# Altium schematic symbol library Interface_RS-485.SchLib: 137 symbols (part 1 of 5)
Pins are listed as number, name and electrical type; pins without a type are passive.

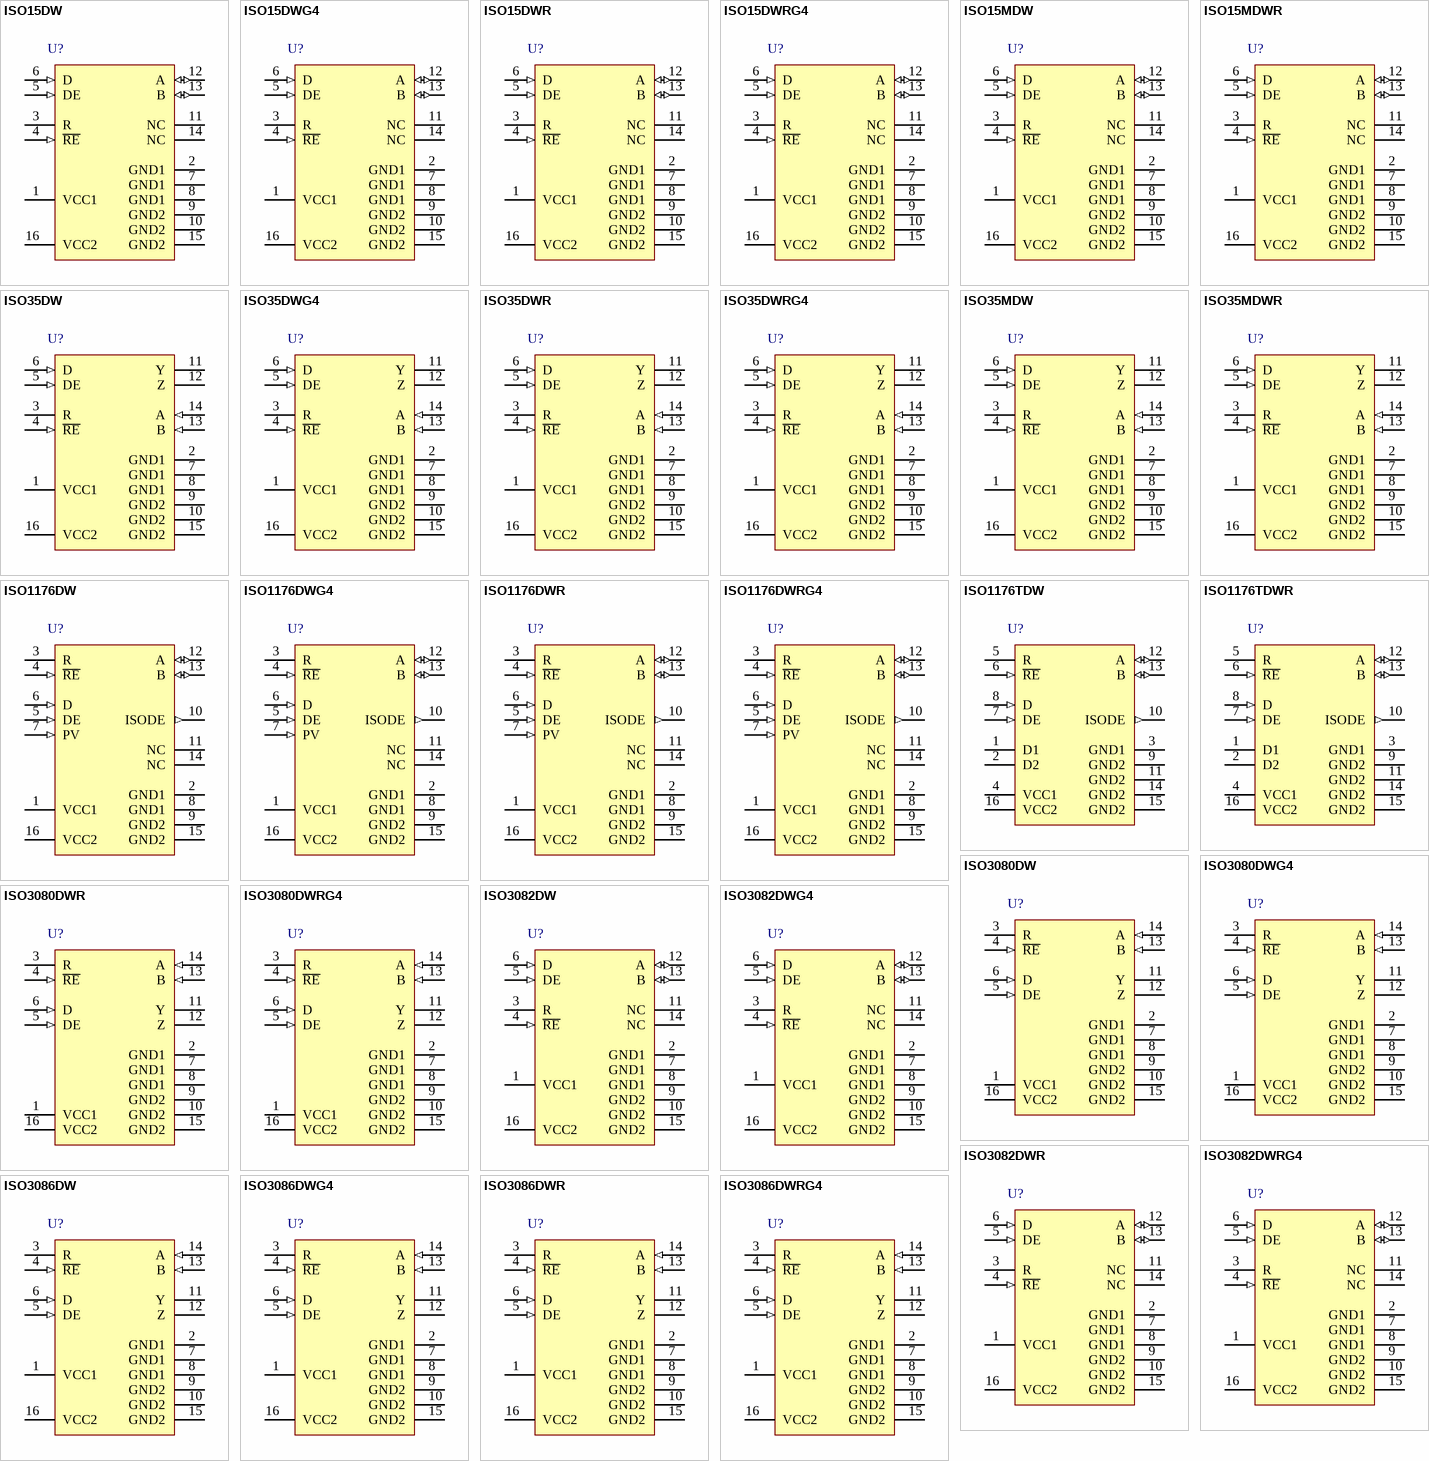
[diagram p0: symbols ISO15DW to ISO3086DWRG4]

## ISO15DW
designator U?
Isolated 3.3 V RS-485 Transceiver, 1 Mbps, 3.3 V, Half Duplex, -40 to 85 degC, 16-pin SOIC (DW), Green (RoHS & no Sb/Br); Manufacturer: Texas Instruments; PartNumber: ISO15DW; # of TX/RX: 1 TX / 1 RX; Isolated: Yes; Number of Nodes: 256; Common Mode Range: -7 to 12; ESD(kV): 16; Fault Protection(V): -9 to 14; Fail Safe: Idle, Open, Short; ICC(Max)(mA): 21; Supply Voltage(s)(V): 3.3; Rating: Catalog; DatasheetVersion: SLOS580F; PackageVersion: revG, Jan-2011; PackageReference: DW16; PackageDescription: 16-Pin Small Outline Integrated Circuit, 10.3 x 7.5 mm, Pitch 1.27 mm Pitch; Supplier 1: Digi-Key; Supplier Part Number 1: 296-23605-5-ND; Supplier 2: Farnell; Supplier Part Number 2: 1755038; Supplier 3: Newark; Supplier Part Number 3: 13N4112; Supplier 4: Mouser; Supplier Part Number 4: 595-ISO15DW; Eco-Plan: Green (RoHS & no Sb/Br); SubFamily: RS-485; Duplex: Half; Mounting Technology: Surface Mount; Code_JEDEC: MS-013-AA; ComponentLink1Description: Datasheet; ComponentLink1URL: http://www.ti.com/general/docs/lit/getliterature.tsp?genericPartNumber=ISO15&fileType=pdf; ComponentLink2Description: Package Specification; ComponentLink2URL: http://www.ti.com/litv/pdf/msoi003g
footprint DW16_N (SOIC, 16-Leads, Body 10.3x7.5mm, Pitch 1.27mm, IPC Medium Density)
footprint DW16_L (SOIC, 16-Leads, Body 10.3x7.5mm, Pitch 1.27mm, IPC High Density)
footprint DW16_M (SOIC, 16-Leads, Body 10.3x7.5mm, Pitch 1.27mm, IPC Low Density)
pins: 1 VCC1 (power), 2 GND1 (power), 3 R (hiz), 4 ~{RE} (in), 5 DE (in), 6 D (in), 7 GND1 (power), 8 GND1 (power), 9 GND2 (power), 10 GND2 (power), 11 NC, 12 A (io), 13 B (io), 14 NC, 15 GND2 (power), 16 VCC2 (power)

## ISO15DWG4
designator U?
Isolated 3.3 V RS-485 Transceiver, 1 Mbps, 3.3 V, Half Duplex, -40 to 85 degC, 16-pin SOIC (DW), Green (RoHS & no Sb/Br); Manufacturer: Texas Instruments; PartNumber: ISO15DWG4; # of TX/RX: 1 TX / 1 RX; Isolated: Yes; Number of Nodes: 256; Common Mode Range: -7 to 12; ESD(kV): 16; Fault Protection(V): -9 to 14; Fail Safe: Idle, Open, Short; ICC(Max)(mA): 21; Supply Voltage(s)(V): 3.3; Rating: Catalog; DatasheetVersion: SLOS580F; PackageVersion: revG, Jan-2011; PackageReference: DW16; PackageDescription: 16-Pin Small Outline Integrated Circuit, 10.3 x 7.5 mm, Pitch 1.27 mm Pitch; Supplier 1: Digi-Key; Supplier Part Number 1: ISO15DWG4-ND; Supplier 2: Newark; Supplier Part Number 2: 03P4521; Supplier 3: Mouser; Supplier Part Number 3: 595-ISO15DWG4; Eco-Plan: Green (RoHS & no Sb/Br); SubFamily: RS-485; Duplex: Half; Mounting Technology: Surface Mount; Code_JEDEC: MS-013-AA; ComponentLink1Description: Datasheet; ComponentLink1URL: http://www.ti.com/general/docs/lit/getliterature.tsp?genericPartNumber=ISO15&fileType=pdf; ComponentLink2Description: Package Specification; ComponentLink2URL: http://www.ti.com/litv/pdf/msoi003g
footprint DW16_N (SOIC, 16-Leads, Body 10.3x7.5mm, Pitch 1.27mm, IPC Medium Density)
footprint DW16_L (SOIC, 16-Leads, Body 10.3x7.5mm, Pitch 1.27mm, IPC High Density)
footprint DW16_M (SOIC, 16-Leads, Body 10.3x7.5mm, Pitch 1.27mm, IPC Low Density)
pins: 1 VCC1 (power), 2 GND1 (power), 3 R (hiz), 4 ~{RE} (in), 5 DE (in), 6 D (in), 7 GND1 (power), 8 GND1 (power), 9 GND2 (power), 10 GND2 (power), 11 NC, 12 A (io), 13 B (io), 14 NC, 15 GND2 (power), 16 VCC2 (power)

## ISO15DWR
designator U?
Isolated 3.3 V RS-485 Transceiver, 1 Mbps, 3.3 V, Half Duplex, -40 to 85 degC, 16-pin SOIC (DW), Green (RoHS & no Sb/Br); Manufacturer: Texas Instruments; PartNumber: ISO15DWR; # of TX/RX: 1 TX / 1 RX; Isolated: Yes; Number of Nodes: 256; Common Mode Range: -7 to 12; ESD(kV): 16; Fault Protection(V): -9 to 14; Fail Safe: Idle, Open, Short; ICC(Max)(mA): 21; Supply Voltage(s)(V): 3.3; Rating: Catalog; DatasheetVersion: SLOS580F; PackageVersion: revG, Jan-2011; PackageReference: DW16; PackageDescription: 16-Pin Small Outline Integrated Circuit, 10.3 x 7.5 mm, Pitch 1.27 mm Pitch; Supplier 1: Digi-Key; Supplier Part Number 1: ISO15DWR-ND; Supplier 2: Newark; Supplier Part Number 2: 03P4522; Supplier 3: Mouser; Supplier Part Number 3: 595-ISO15DWR; Eco-Plan: Green (RoHS & no Sb/Br); SubFamily: RS-485; Duplex: Half; Mounting Technology: Surface Mount; Code_JEDEC: MS-013-AA; ComponentLink1Description: Datasheet; ComponentLink1URL: http://www.ti.com/general/docs/lit/getliterature.tsp?genericPartNumber=ISO15&fileType=pdf; ComponentLink2Description: Package Specification; ComponentLink2URL: http://www.ti.com/litv/pdf/msoi003g
footprint DW16_N (SOIC, 16-Leads, Body 10.3x7.5mm, Pitch 1.27mm, IPC Medium Density)
footprint DW16_L (SOIC, 16-Leads, Body 10.3x7.5mm, Pitch 1.27mm, IPC High Density)
footprint DW16_M (SOIC, 16-Leads, Body 10.3x7.5mm, Pitch 1.27mm, IPC Low Density)
pins: 1 VCC1 (power), 2 GND1 (power), 3 R (hiz), 4 ~{RE} (in), 5 DE (in), 6 D (in), 7 GND1 (power), 8 GND1 (power), 9 GND2 (power), 10 GND2 (power), 11 NC, 12 A (io), 13 B (io), 14 NC, 15 GND2 (power), 16 VCC2 (power)

## ISO15DWRG4
designator U?
Isolated 3.3 V RS-485 Transceiver, 1 Mbps, 3.3 V, Half Duplex, -40 to 85 degC, 16-pin SOIC (DW), Green (RoHS & no Sb/Br); Manufacturer: Texas Instruments; PartNumber: ISO15DWRG4; # of TX/RX: 1 TX / 1 RX; Isolated: Yes; Number of Nodes: 256; Common Mode Range: -7 to 12; ESD(kV): 16; Fault Protection(V): -9 to 14; Fail Safe: Idle, Open, Short; ICC(Max)(mA): 21; Supply Voltage(s)(V): 3.3; Rating: Catalog; DatasheetVersion: SLOS580F; PackageVersion: revG, Jan-2011; PackageReference: DW16; PackageDescription: 16-Pin Small Outline Integrated Circuit, 10.3 x 7.5 mm, Pitch 1.27 mm Pitch; Supplier 1: Digi-Key; Supplier Part Number 1: ISO15DWRG4-ND; Supplier 2: Newark; Supplier Part Number 2: 03P4523; Supplier 3: Mouser; Supplier Part Number 3: 595-ISO15DWRG4; Eco-Plan: Green (RoHS & no Sb/Br); SubFamily: RS-485; Duplex: Half; Mounting Technology: Surface Mount; Code_JEDEC: MS-013-AA; ComponentLink1Description: Datasheet; ComponentLink1URL: http://www.ti.com/general/docs/lit/getliterature.tsp?genericPartNumber=ISO15&fileType=pdf; ComponentLink2Description: Package Specification; ComponentLink2URL: http://www.ti.com/litv/pdf/msoi003g
footprint DW16_N (SOIC, 16-Leads, Body 10.3x7.5mm, Pitch 1.27mm, IPC Medium Density)
footprint DW16_L (SOIC, 16-Leads, Body 10.3x7.5mm, Pitch 1.27mm, IPC High Density)
footprint DW16_M (SOIC, 16-Leads, Body 10.3x7.5mm, Pitch 1.27mm, IPC Low Density)
pins: 1 VCC1 (power), 2 GND1 (power), 3 R (hiz), 4 ~{RE} (in), 5 DE (in), 6 D (in), 7 GND1 (power), 8 GND1 (power), 9 GND2 (power), 10 GND2 (power), 11 NC, 12 A (io), 13 B (io), 14 NC, 15 GND2 (power), 16 VCC2 (power)

## ISO15MDW
designator U?
Isolated 3.3 V RS-485 Transceiver, 1 Mbps, 3.3 V, Half Duplex, -55 to 125 degC, 16-pin SOIC (DW), Green (RoHS & no Sb/Br); Manufacturer: Texas Instruments; PartNumber: ISO15MDW; # of TX/RX: 1 TX / 1 RX; Isolated: Yes; Number of Nodes: 256; Common Mode Range: -7 to 12; ESD(kV): 16; Fault Protection(V): -9 to 14; Fail Safe: Idle, Open, Short; ICC(Max)(mA): 21; Supply Voltage(s)(V): 3.3; Rating: Catalog; DatasheetVersion: SLOS580F; PackageVersion: revG, Jan-2011; PackageReference: DW16; PackageDescription: 16-Pin Small Outline Integrated Circuit, 10.3 x 7.5 mm, Pitch 1.27 mm Pitch; Supplier 1: Digi-Key; Supplier Part Number 1: 296-27545-5-ND; Supplier 2: Newark; Supplier Part Number 2: 79R8074; Supplier 3: Mouser; Supplier Part Number 3: 595-ISO15MDW; Eco-Plan: Green (RoHS & no Sb/Br); SubFamily: RS-485; Duplex: Half; Mounting Technology: Surface Mount; Code_JEDEC: MS-013-AA; ComponentLink1Description: Datasheet; ComponentLink1URL: http://www.ti.com/general/docs/lit/getliterature.tsp?genericPartNumber=ISO15&fileType=pdf; ComponentLink2Description: Package Specification; ComponentLink2URL: http://www.ti.com/litv/pdf/msoi003g
footprint DW16_N (SOIC, 16-Leads, Body 10.3x7.5mm, Pitch 1.27mm, IPC Medium Density)
footprint DW16_L (SOIC, 16-Leads, Body 10.3x7.5mm, Pitch 1.27mm, IPC High Density)
footprint DW16_M (SOIC, 16-Leads, Body 10.3x7.5mm, Pitch 1.27mm, IPC Low Density)
pins: 1 VCC1 (power), 2 GND1 (power), 3 R (hiz), 4 ~{RE} (in), 5 DE (in), 6 D (in), 7 GND1 (power), 8 GND1 (power), 9 GND2 (power), 10 GND2 (power), 11 NC, 12 A (io), 13 B (io), 14 NC, 15 GND2 (power), 16 VCC2 (power)

## ISO15MDWR
designator U?
Isolated 3.3 V RS-485 Transceiver, 1 Mbps, 3.3 V, Half Duplex, -55 to 125 degC, 16-pin SOIC (DW), Green (RoHS & no Sb/Br); Manufacturer: Texas Instruments; PartNumber: ISO15MDWR; # of TX/RX: 1 TX / 1 RX; Isolated: Yes; Number of Nodes: 256; Common Mode Range: -7 to 12; ESD(kV): 16; Fault Protection(V): -9 to 14; Fail Safe: Idle, Open, Short; ICC(Max)(mA): 21; Supply Voltage(s)(V): 3.3; Rating: Catalog; DatasheetVersion: SLOS580F; PackageVersion: revG, Jan-2011; PackageReference: DW16; PackageDescription: 16-Pin Small Outline Integrated Circuit, 10.3 x 7.5 mm, Pitch 1.27 mm Pitch; Supplier 1: Digi-Key; Supplier Part Number 1: ISO15MDWR-ND; Supplier 2: Mouser; Supplier Part Number 2: 595-ISO15MDWR; Eco-Plan: Green (RoHS & no Sb/Br); SubFamily: RS-485; Duplex: Half; Mounting Technology: Surface Mount; Code_JEDEC: MS-013-AA; ComponentLink1Description: Datasheet; ComponentLink1URL: http://www.ti.com/general/docs/lit/getliterature.tsp?genericPartNumber=ISO15&fileType=pdf; ComponentLink2Description: Package Specification; ComponentLink2URL: http://www.ti.com/litv/pdf/msoi003g
footprint DW16_N (SOIC, 16-Leads, Body 10.3x7.5mm, Pitch 1.27mm, IPC Medium Density)
footprint DW16_L (SOIC, 16-Leads, Body 10.3x7.5mm, Pitch 1.27mm, IPC High Density)
footprint DW16_M (SOIC, 16-Leads, Body 10.3x7.5mm, Pitch 1.27mm, IPC Low Density)
pins: 1 VCC1 (power), 2 GND1 (power), 3 R (hiz), 4 ~{RE} (in), 5 DE (in), 6 D (in), 7 GND1 (power), 8 GND1 (power), 9 GND2 (power), 10 GND2 (power), 11 NC, 12 A (io), 13 B (io), 14 NC, 15 GND2 (power), 16 VCC2 (power)

## ISO35DW
designator U?
Isolated 3.3 V RS-485 Transceiver, 1 Mbps, 3.3 V, Full Duplex, -40 to 85 degC, 16-pin SOIC (DW), Green (RoHS & no Sb/Br); Manufacturer: Texas Instruments; PartNumber: ISO35DW; # of TX/RX: 1 TX / 1 RX; Drivers Per Package: 1; Isolated: Yes; Number of Nodes: 256; Common Mode Range: -7 to 12; ESD(kV): 16; Fault Protection(V): -9 to 14; Fail Safe: Idle, Open, Short; ICC(Max)(mA): 20; Supply Voltage(s)(V): 3.3; Rating: Catalog; DatasheetVersion: SLOS580F; PackageVersion: revG, Jan-2011; PackageReference: DW16; PackageDescription: 16-Pin Small Outline Integrated Circuit, 10.3 x 7.5 mm, Pitch 1.27 mm Pitch; Supplier 1: Digi-Key; Supplier Part Number 1: 296-23609-5-ND; Supplier 2: Farnell; Supplier Part Number 2: 1755044; Supplier 3: Newark; Supplier Part Number 3: 13N4117; Supplier 4: Mouser; Supplier Part Number 4: 595-ISO35DW; Eco-Plan: Green (RoHS & no Sb/Br); SubFamily: RS-485; Receivers Per Package: 1; Duplex: Full; Signaling Rate(Mbps): 1; Mounting Technology: Surface Mount; Code_JEDEC: MS-013-AA; ComponentLink1Description: Datasheet; ComponentLink1URL: http://www.ti.com/general/docs/lit/getliterature.tsp?genericPartNumber=ISO35&fileType=pdf; ComponentLink2Description: Package Specification; ComponentLink2URL: http://www.ti.com/litv/pdf/msoi003g
footprint DW16_N (SOIC, 16-Leads, Body 10.3x7.5mm, Pitch 1.27mm, IPC Medium Density)
footprint DW16_L (SOIC, 16-Leads, Body 10.3x7.5mm, Pitch 1.27mm, IPC High Density)
footprint DW16_M (SOIC, 16-Leads, Body 10.3x7.5mm, Pitch 1.27mm, IPC Low Density)
pins: 1 VCC1 (power), 2 GND1 (power), 3 R (hiz), 4 ~{RE} (in), 5 DE (in), 6 D (in), 7 GND1 (power), 8 GND1 (power), 9 GND2 (power), 10 GND2 (power), 11 Y (hiz), 12 Z (hiz), 13 B (in), 14 A (in), 15 GND2 (power), 16 VCC2 (power)

## ISO35DWG4
designator U?
Isolated 3.3 V RS-485 Transceiver, 1 Mbps, 3.3 V, Full Duplex, -40 to 85 degC, 16-pin SOIC (DW), Green (RoHS & no Sb/Br); Manufacturer: Texas Instruments; PartNumber: ISO35DWG4; # of TX/RX: 1 TX / 1 RX; Drivers Per Package: 1; Isolated: Yes; Number of Nodes: 256; Common Mode Range: -7 to 12; ESD(kV): 16; Fault Protection(V): -9 to 14; Fail Safe: Idle, Open, Short; ICC(Max)(mA): 20; Supply Voltage(s)(V): 3.3; Rating: Catalog; DatasheetVersion: SLOS580F; PackageVersion: revG, Jan-2011; PackageReference: DW16; PackageDescription: 16-Pin Small Outline Integrated Circuit, 10.3 x 7.5 mm, Pitch 1.27 mm Pitch; Supplier 1: Digi-Key; Supplier Part Number 1: ISO35DWG4-ND; Supplier 2: Newark; Supplier Part Number 2: 03P4536; Supplier 3: Mouser; Supplier Part Number 3: 595-ISO35DWG4; Eco-Plan: Green (RoHS & no Sb/Br); SubFamily: RS-485; Receivers Per Package: 1; Duplex: Full; Signaling Rate(Mbps): 1; Mounting Technology: Surface Mount; Code_JEDEC: MS-013-AA; ComponentLink1Description: Datasheet; ComponentLink1URL: http://www.ti.com/general/docs/lit/getliterature.tsp?genericPartNumber=ISO35&fileType=pdf; ComponentLink2Description: Package Specification; ComponentLink2URL: http://www.ti.com/litv/pdf/msoi003g
footprint DW16_N (SOIC, 16-Leads, Body 10.3x7.5mm, Pitch 1.27mm, IPC Medium Density)
footprint DW16_L (SOIC, 16-Leads, Body 10.3x7.5mm, Pitch 1.27mm, IPC High Density)
footprint DW16_M (SOIC, 16-Leads, Body 10.3x7.5mm, Pitch 1.27mm, IPC Low Density)
pins: 1 VCC1 (power), 2 GND1 (power), 3 R (hiz), 4 ~{RE} (in), 5 DE (in), 6 D (in), 7 GND1 (power), 8 GND1 (power), 9 GND2 (power), 10 GND2 (power), 11 Y (hiz), 12 Z (hiz), 13 B (in), 14 A (in), 15 GND2 (power), 16 VCC2 (power)

## ISO35DWR
designator U?
Isolated 3.3 V RS-485 Transceiver, 1 Mbps, 3.3 V, Full Duplex, -40 to 85 degC, 16-pin SOIC (DW), Green (RoHS & no Sb/Br); Manufacturer: Texas Instruments; PartNumber: ISO35DWR; # of TX/RX: 1 TX / 1 RX; Drivers Per Package: 1; Isolated: Yes; Number of Nodes: 256; Common Mode Range: -7 to 12; ESD(kV): 16; Fault Protection(V): -9 to 14; Fail Safe: Idle, Open, Short; ICC(Max)(mA): 20; Supply Voltage(s)(V): 3.3; Rating: Catalog; DatasheetVersion: SLOS580F; PackageVersion: revG, Jan-2011; PackageReference: DW16; PackageDescription: 16-Pin Small Outline Integrated Circuit, 10.3 x 7.5 mm, Pitch 1.27 mm Pitch; Supplier 1: Digi-Key; Supplier Part Number 1: ISO35DWR-ND; Supplier 2: Mouser; Supplier Part Number 2: 595-ISO35DWR; Eco-Plan: Green (RoHS & no Sb/Br); SubFamily: RS-485; Receivers Per Package: 1; Duplex: Full; Signaling Rate(Mbps): 1; Mounting Technology: Surface Mount; Code_JEDEC: MS-013-AA; ComponentLink1Description: Datasheet; ComponentLink1URL: http://www.ti.com/general/docs/lit/getliterature.tsp?genericPartNumber=ISO35&fileType=pdf; ComponentLink2Description: Package Specification; ComponentLink2URL: http://www.ti.com/litv/pdf/msoi003g
footprint DW16_N (SOIC, 16-Leads, Body 10.3x7.5mm, Pitch 1.27mm, IPC Medium Density)
footprint DW16_L (SOIC, 16-Leads, Body 10.3x7.5mm, Pitch 1.27mm, IPC High Density)
footprint DW16_M (SOIC, 16-Leads, Body 10.3x7.5mm, Pitch 1.27mm, IPC Low Density)
pins: 1 VCC1 (power), 2 GND1 (power), 3 R (hiz), 4 ~{RE} (in), 5 DE (in), 6 D (in), 7 GND1 (power), 8 GND1 (power), 9 GND2 (power), 10 GND2 (power), 11 Y (hiz), 12 Z (hiz), 13 B (in), 14 A (in), 15 GND2 (power), 16 VCC2 (power)

## ISO35DWRG4
designator U?
Isolated 3.3 V RS-485 Transceiver, 1 Mbps, 3.3 V, Full Duplex, -40 to 85 degC, 16-pin SOIC (DW), Green (RoHS & no Sb/Br); Manufacturer: Texas Instruments; PartNumber: ISO35DWRG4; # of TX/RX: 1 TX / 1 RX; Drivers Per Package: 1; Isolated: Yes; Number of Nodes: 256; Common Mode Range: -7 to 12; ESD(kV): 16; Fault Protection(V): -9 to 14; Fail Safe: Idle, Open, Short; ICC(Max)(mA): 20; Supply Voltage(s)(V): 3.3; Rating: Catalog; DatasheetVersion: SLOS580F; PackageVersion: revG, Jan-2011; PackageReference: DW16; PackageDescription: 16-Pin Small Outline Integrated Circuit, 10.3 x 7.5 mm, Pitch 1.27 mm Pitch; Supplier 1: Digi-Key; Supplier Part Number 1: ISO35DWRG4-ND; Supplier 2: Mouser; Supplier Part Number 2: 595-ISO35DWRG4; Eco-Plan: Green (RoHS & no Sb/Br); SubFamily: RS-485; Receivers Per Package: 1; Duplex: Full; Signaling Rate(Mbps): 1; Mounting Technology: Surface Mount; Code_JEDEC: MS-013-AA; ComponentLink1Description: Datasheet; ComponentLink1URL: http://www.ti.com/general/docs/lit/getliterature.tsp?genericPartNumber=ISO35&fileType=pdf; ComponentLink2Description: Package Specification; ComponentLink2URL: http://www.ti.com/litv/pdf/msoi003g
footprint DW16_N (SOIC, 16-Leads, Body 10.3x7.5mm, Pitch 1.27mm, IPC Medium Density)
footprint DW16_L (SOIC, 16-Leads, Body 10.3x7.5mm, Pitch 1.27mm, IPC High Density)
footprint DW16_M (SOIC, 16-Leads, Body 10.3x7.5mm, Pitch 1.27mm, IPC Low Density)
pins: 1 VCC1 (power), 2 GND1 (power), 3 R (hiz), 4 ~{RE} (in), 5 DE (in), 6 D (in), 7 GND1 (power), 8 GND1 (power), 9 GND2 (power), 10 GND2 (power), 11 Y (hiz), 12 Z (hiz), 13 B (in), 14 A (in), 15 GND2 (power), 16 VCC2 (power)

## ISO35MDW
designator U?
Isolated 3.3 V RS-485 Transceiver, 1 Mbps, 3.3 V, Full Duplex, -55 to 125 degC, 16-pin SOIC (DW), Green (RoHS & no Sb/Br); Manufacturer: Texas Instruments; PartNumber: ISO35MDW; # of TX/RX: 1 TX / 1 RX; Drivers Per Package: 1; Isolated: Yes; Number of Nodes: 256; Common Mode Range: -7 to 12; ESD(kV): 16; Fault Protection(V): -9 to 14; Fail Safe: Idle, Open, Short; ICC(Max)(mA): 20; Supply Voltage(s)(V): 3.3; Rating: Catalog; DatasheetVersion: SLOS580F; PackageVersion: revG, Jan-2011; PackageReference: DW16; PackageDescription: 16-Pin Small Outline Integrated Circuit, 10.3 x 7.5 mm, Pitch 1.27 mm Pitch; Supplier 1: Digi-Key; Supplier Part Number 1: ISO35MDW-ND; Supplier 2: Mouser; Supplier Part Number 2: 595-ISO35MDW; Eco-Plan: Green (RoHS & no Sb/Br); SubFamily: RS-485; Receivers Per Package: 1; Duplex: Full; Signaling Rate(Mbps): 1; Mounting Technology: Surface Mount; Code_JEDEC: MS-013-AA; ComponentLink1Description: Datasheet; ComponentLink1URL: http://www.ti.com/general/docs/lit/getliterature.tsp?genericPartNumber=ISO35&fileType=pdf; ComponentLink2Description: Package Specification; ComponentLink2URL: http://www.ti.com/litv/pdf/msoi003g
footprint DW16_N (SOIC, 16-Leads, Body 10.3x7.5mm, Pitch 1.27mm, IPC Medium Density)
footprint DW16_L (SOIC, 16-Leads, Body 10.3x7.5mm, Pitch 1.27mm, IPC High Density)
footprint DW16_M (SOIC, 16-Leads, Body 10.3x7.5mm, Pitch 1.27mm, IPC Low Density)
pins: 1 VCC1 (power), 2 GND1 (power), 3 R (hiz), 4 ~{RE} (in), 5 DE (in), 6 D (in), 7 GND1 (power), 8 GND1 (power), 9 GND2 (power), 10 GND2 (power), 11 Y (hiz), 12 Z (hiz), 13 B (in), 14 A (in), 15 GND2 (power), 16 VCC2 (power)

## ISO35MDWR
designator U?
Isolated 3.3 V RS-485 Transceiver, 1 Mbps, 3.3 V, Full Duplex, -55 to 125 degC, 16-pin SOIC (DW), Green (RoHS & no Sb/Br); Manufacturer: Texas Instruments; PartNumber: ISO35MDWR; # of TX/RX: 1 TX / 1 RX; Drivers Per Package: 1; Isolated: Yes; Number of Nodes: 256; Common Mode Range: -7 to 12; ESD(kV): 16; Fault Protection(V): -9 to 14; Fail Safe: Idle, Open, Short; ICC(Max)(mA): 20; Supply Voltage(s)(V): 3.3; Rating: Catalog; DatasheetVersion: SLOS580F; PackageVersion: revG, Jan-2011; PackageReference: DW16; PackageDescription: 16-Pin Small Outline Integrated Circuit, 10.3 x 7.5 mm, Pitch 1.27 mm Pitch; Supplier 1: Digi-Key; Supplier Part Number 1: 296-27521-2-ND; Supplier 2: Digi-Key; Supplier Part Number 2: 296-27521-1-ND; Supplier 3: Digi-Key; Supplier Part Number 3: 296-27521-6-ND; Supplier 4: Newark; Supplier Part Number 4: 79R8077; Supplier 5: Mouser; Supplier Part Number 5: 595-ISO35MDWR; Eco-Plan: Green (RoHS & no Sb/Br); SubFamily: RS-485; Receivers Per Package: 1; Duplex: Full; Signaling Rate(Mbps): 1; Mounting Technology: Surface Mount; Code_JEDEC: MS-013-AA; ComponentLink1Description: Datasheet; ComponentLink1URL: http://www.ti.com/general/docs/lit/getliterature.tsp?genericPartNumber=ISO35&fileType=pdf; ComponentLink2Description: Package Specification; ComponentLink2URL: http://www.ti.com/litv/pdf/msoi003g
footprint DW16_N (SOIC, 16-Leads, Body 10.3x7.5mm, Pitch 1.27mm, IPC Medium Density)
footprint DW16_L (SOIC, 16-Leads, Body 10.3x7.5mm, Pitch 1.27mm, IPC High Density)
footprint DW16_M (SOIC, 16-Leads, Body 10.3x7.5mm, Pitch 1.27mm, IPC Low Density)
pins: 1 VCC1 (power), 2 GND1 (power), 3 R (hiz), 4 ~{RE} (in), 5 DE (in), 6 D (in), 7 GND1 (power), 8 GND1 (power), 9 GND2 (power), 10 GND2 (power), 11 Y (hiz), 12 Z (hiz), 13 B (in), 14 A (in), 15 GND2 (power), 16 VCC2 (power)

## ISO1176DW
designator U?
Isolated PROFIBUS RS-485 Transceiver, 40 Mbps, 5 V, Half Duplex, -40 to 85 degC, 16-pin SOIC (DW), Green (RoHS & no Sb/Br); Manufacturer: Texas Instruments; PartNumber: ISO1176DW; # of TX/RX: 1 TX / 1 RX; Drivers Per Package: 1; Isolated: Yes; Number of Nodes: 256; Signaling Rate(Mbps): 40; Common Mode Range: -7 to 12; ESD(kV): 16; Fault Protection(V): -9 to 14; Fail Safe: Idle, Open, Short; ICC(Max)(mA): 75; Supply Voltage(s)(V): 5; Rating: Catalog; DatasheetVersion: SLLS897D; PackageVersion: revG, Jan-2011; PackageReference: DW16; PackageDescription: 16-Pin Small Outline Integrated Circuit, 10.3 x 7.5 mm, Pitch 1.27 mm Pitch; Supplier 1: Digi-Key; Supplier Part Number 1: 296-23604-5-ND; Supplier 2: Farnell; Supplier Part Number 2: 1755037; Supplier 3: Newark; Supplier Part Number 3: 13N4111; Supplier 4: Mouser; Supplier Part Number 4: 595-ISO1176DW; Eco-Plan: Green (RoHS & no Sb/Br); SubFamily: RS-485; Receivers Per Package: 1; Duplex: Half; Mounting Technology: Surface Mount; Code_JEDEC: MS-013-AA; ComponentLink1Description: Datasheet; ComponentLink1URL: http://www.ti.com/general/docs/lit/getliterature.tsp?genericPartNumber=ISO1176&fileType=pdf; ComponentLink2Description: Package Specification; ComponentLink2URL: http://www.ti.com/litv/pdf/msoi003g
footprint DW16_N (SOIC, 16-Leads, Body 10.3x7.5mm, Pitch 1.27mm, IPC Medium Density)
footprint DW16_L (SOIC, 16-Leads, Body 10.3x7.5mm, Pitch 1.27mm, IPC High Density)
footprint DW16_M (SOIC, 16-Leads, Body 10.3x7.5mm, Pitch 1.27mm, IPC Low Density)
pins: 1 VCC1 (power) "logic side power supply", 2 GND1 (power) "logic side ground, internally connected", 3 R (hiz) "receiver output", 4 ~{RE} (in) "receiver logic-low enable", 5 DE (in) "driver logic-high enable input", 6 D (in) "driver input", 7 PV (in) "ISO1176 chip enable,logic high applied immediately after power-up for device operation.a logic low 3-states all outputs.", 8 GND1 (power) "logic side ground, internally connected", 9 GND2 (power) "bus side ground, internally connected", 10 ISODE (out) "bus-side driver enable output", 11 NC "not connected internally, may be left floating", 12 A (io) "non-inverting bus output", 13 B (io) "inverting bus output", 14 NC "not connected internally, may be left floating", 15 GND2 (power) "bus side ground, internally connected", 16 VCC2 (power) "bus side power supply"

## ISO1176DWG4
designator U?
Isolated PROFIBUS RS-485 Transceiver, 40 Mbps, 5 V, Half Duplex, -40 to 85 degC, 16-pin SOIC (DW), Green (RoHS & no Sb/Br); Manufacturer: Texas Instruments; PartNumber: ISO1176DWG4; # of TX/RX: 1 TX / 1 RX; Drivers Per Package: 1; Isolated: Yes; Number of Nodes: 256; Signaling Rate(Mbps): 40; Common Mode Range: -7 to 12; ESD(kV): 16; Fault Protection(V): -9 to 14; Fail Safe: Idle, Open, Short; ICC(Max)(mA): 75; Supply Voltage(s)(V): 5; Rating: Catalog; DatasheetVersion: SLLS897D; PackageVersion: revG, Jan-2011; PackageReference: DW16; PackageDescription: 16-Pin Small Outline Integrated Circuit, 10.3 x 7.5 mm, Pitch 1.27 mm Pitch; Supplier 1: Digi-Key; Supplier Part Number 1: ISO1176DWG4-ND; Supplier 2: Newark; Supplier Part Number 2: 03P4518; Supplier 3: Mouser; Supplier Part Number 3: 595-ISO1176DWG4; Eco-Plan: Green (RoHS & no Sb/Br); SubFamily: RS-485; Receivers Per Package: 1; Duplex: Half; Mounting Technology: Surface Mount; Code_JEDEC: MS-013-AA; ComponentLink1Description: Datasheet; ComponentLink1URL: http://www.ti.com/general/docs/lit/getliterature.tsp?genericPartNumber=ISO1176&fileType=pdf; ComponentLink2Description: Package Specification; ComponentLink2URL: http://www.ti.com/litv/pdf/msoi003g
footprint DW16_N (SOIC, 16-Leads, Body 10.3x7.5mm, Pitch 1.27mm, IPC Medium Density)
footprint DW16_L (SOIC, 16-Leads, Body 10.3x7.5mm, Pitch 1.27mm, IPC High Density)
footprint DW16_M (SOIC, 16-Leads, Body 10.3x7.5mm, Pitch 1.27mm, IPC Low Density)
pins: 1 VCC1 (power) "logic side power supply", 2 GND1 (power) "logic side ground, internally connected", 3 R (hiz) "receiver output", 4 ~{RE} (in) "receiver logic-low enable", 5 DE (in) "driver logic-high enable input", 6 D (in) "driver input", 7 PV (in) "ISO1176 chip enable,logic high applied immediately after power-up for device operation.a logic low 3-states all outputs.", 8 GND1 (power) "logic side ground, internally connected", 9 GND2 (power) "bus side ground, internally connected", 10 ISODE (out) "bus-side driver enable output", 11 NC "not connected internally, may be left floating", 12 A (io) "non-inverting bus output", 13 B (io) "inverting bus output", 14 NC "not connected internally, may be left floating", 15 GND2 (power) "bus side ground, internally connected", 16 VCC2 (power) "bus side power supply"

## ISO1176DWR
designator U?
Isolated PROFIBUS RS-485 Transceiver, 40 Mbps, 5 V, Half Duplex, -40 to 85 degC, 16-pin SOIC (DW), Green (RoHS & no Sb/Br); Manufacturer: Texas Instruments; PartNumber: ISO1176DWR; # of TX/RX: 1 TX / 1 RX; Drivers Per Package: 1; Isolated: Yes; Number of Nodes: 256; Signaling Rate(Mbps): 40; Common Mode Range: -7 to 12; ESD(kV): 16; Fault Protection(V): -9 to 14; Fail Safe: Idle, Open, Short; ICC(Max)(mA): 75; Supply Voltage(s)(V): 5; Rating: Catalog; DatasheetVersion: SLLS897D; PackageVersion: revG, Jan-2011; PackageReference: DW16; PackageDescription: 16-Pin Small Outline Integrated Circuit, 10.3 x 7.5 mm, Pitch 1.27 mm Pitch; Supplier 1: Digi-Key; Supplier Part Number 1: ISO1176DWR-ND; Supplier 2: Newark; Supplier Part Number 2: 03P4519; Supplier 3: Mouser; Supplier Part Number 3: 595-ISO1176DWR; Eco-Plan: Green (RoHS & no Sb/Br); SubFamily: RS-485; Receivers Per Package: 1; Duplex: Half; Mounting Technology: Surface Mount; Code_JEDEC: MS-013-AA; ComponentLink1Description: Datasheet; ComponentLink1URL: http://www.ti.com/general/docs/lit/getliterature.tsp?genericPartNumber=ISO1176&fileType=pdf; ComponentLink2Description: Package Specification; ComponentLink2URL: http://www.ti.com/litv/pdf/msoi003g
footprint DW16_N (SOIC, 16-Leads, Body 10.3x7.5mm, Pitch 1.27mm, IPC Medium Density)
footprint DW16_L (SOIC, 16-Leads, Body 10.3x7.5mm, Pitch 1.27mm, IPC High Density)
footprint DW16_M (SOIC, 16-Leads, Body 10.3x7.5mm, Pitch 1.27mm, IPC Low Density)
pins: 1 VCC1 (power) "logic side power supply", 2 GND1 (power) "logic side ground, internally connected", 3 R (hiz) "receiver output", 4 ~{RE} (in) "receiver logic-low enable", 5 DE (in) "driver logic-high enable input", 6 D (in) "driver input", 7 PV (in) "ISO1176 chip enable,logic high applied immediately after power-up for device operation.a logic low 3-states all outputs.", 8 GND1 (power) "logic side ground, internally connected", 9 GND2 (power) "bus side ground, internally connected", 10 ISODE (out) "bus-side driver enable output", 11 NC "not connected internally, may be left floating", 12 A (io) "non-inverting bus output", 13 B (io) "inverting bus output", 14 NC "not connected internally, may be left floating", 15 GND2 (power) "bus side ground, internally connected", 16 VCC2 (power) "bus side power supply"

## ISO1176DWRG4
designator U?
Isolated PROFIBUS RS-485 Transceiver, 40 Mbps, 5 V, Half Duplex, -40 to 85 degC, 16-pin SOIC (DW), Green (RoHS & no Sb/Br); Manufacturer: Texas Instruments; PartNumber: ISO1176DWRG4; # of TX/RX: 1 TX / 1 RX; Drivers Per Package: 1; Isolated: Yes; Number of Nodes: 256; Signaling Rate(Mbps): 40; Common Mode Range: -7 to 12; ESD(kV): 16; Fault Protection(V): -9 to 14; Fail Safe: Idle, Open, Short; ICC(Max)(mA): 75; Supply Voltage(s)(V): 5; Rating: Catalog; DatasheetVersion: SLLS897D; PackageVersion: revG, Jan-2011; PackageReference: DW16; PackageDescription: 16-Pin Small Outline Integrated Circuit, 10.3 x 7.5 mm, Pitch 1.27 mm Pitch; Supplier 1: Digi-Key; Supplier Part Number 1: ISO1176DWRG4-ND; Supplier 2: Newark; Supplier Part Number 2: 03P4520; Supplier 3: Mouser; Supplier Part Number 3: 595-ISO1176DWRG4; Eco-Plan: Green (RoHS & no Sb/Br); SubFamily: RS-485; Receivers Per Package: 1; Duplex: Half; Mounting Technology: Surface Mount; Code_JEDEC: MS-013-AA; ComponentLink1Description: Datasheet; ComponentLink1URL: http://www.ti.com/general/docs/lit/getliterature.tsp?genericPartNumber=ISO1176&fileType=pdf; ComponentLink2Description: Package Specification; ComponentLink2URL: http://www.ti.com/litv/pdf/msoi003g
footprint DW16_N (SOIC, 16-Leads, Body 10.3x7.5mm, Pitch 1.27mm, IPC Medium Density)
footprint DW16_L (SOIC, 16-Leads, Body 10.3x7.5mm, Pitch 1.27mm, IPC High Density)
footprint DW16_M (SOIC, 16-Leads, Body 10.3x7.5mm, Pitch 1.27mm, IPC Low Density)
pins: 1 VCC1 (power) "logic side power supply", 2 GND1 (power) "logic side ground, internally connected", 3 R (hiz) "receiver output", 4 ~{RE} (in) "receiver logic-low enable", 5 DE (in) "driver logic-high enable input", 6 D (in) "driver input", 7 PV (in) "ISO1176 chip enable,logic high applied immediately after power-up for device operation.a logic low 3-states all outputs.", 8 GND1 (power) "logic side ground, internally connected", 9 GND2 (power) "bus side ground, internally connected", 10 ISODE (out) "bus-side driver enable output", 11 NC "not connected internally, may be left floating", 12 A (io) "non-inverting bus output", 13 B (io) "inverting bus output", 14 NC "not connected internally, may be left floating", 15 GND2 (power) "bus side ground, internally connected", 16 VCC2 (power) "bus side power supply"

## ISO1176TDW
designator U?
Isolated ProfiBus Transceiver with Integrated Transformer Driver, 40 Mbps, 5 V, Half Duplex, -40 to 85 degC, 16-pin SOIC (DW), Green (RoHS & no Sb/Br); Manufacturer: Texas Instruments; PartNumber: ISO1176TDW; Eco-Plan: TBD; SubFamily: RS-485; # of TX/RX: 1 TX / 1 RX; Isolated: Yes; Number of Nodes: 256; Common Mode Range: -7 to 12; ESD(kV): 10; Fault Protection(V): -9 to 14; Fail Safe: Idle, Open, Short; Supply Voltage(s)(V): 5; Rating: Catalog; DatasheetVersion: SLLSE28E; PackageVersion: revG, Jan-2011; PackageReference: DW16; PackageDescription: 16-Pin Small Outline Integrated Circuit, 10.3 x 7.5 mm, Pitch 1.27 mm Pitch; Supplier 1: Digi-Key; Supplier Part Number 1: 296-28103-5-ND; Supplier 2: Farnell; Supplier Part Number 2: 1863111; Supplier 3: Newark; Supplier Part Number 3: 24T4576; Supplier 4: Mouser; Supplier Part Number 4: 595-ISO1176TDW; Duplex: Half; Footprint: 16 SOIC; Mounting Technology: Surface Mount; Code_JEDEC: MS-013-AA; ComponentLink1Description: Datasheet; ComponentLink1URL: http://www.ti.com/general/docs/lit/getliterature.tsp?genericPartNumber=ISO1176T&fileType=pdf; ComponentLink2Description: Package Specification; ComponentLink2URL: http://www.ti.com/litv/pdf/msoi003g
footprint DW16_N (SOIC, 16-Leads, Body 10.3x7.5mm, Pitch 1.27mm, IPC Medium Density)
footprint DW16_L (SOIC, 16-Leads, Body 10.3x7.5mm, Pitch 1.27mm, IPC High Density)
footprint DW16_M (SOIC, 16-Leads, Body 10.3x7.5mm, Pitch 1.27mm, IPC Low Density)
pins: 1 D1 (oc) "Transformer Driver Terminal 1, Open Drain Output", 2 D2 (oc) "Transformer Driver Terminal 2, Open Drain Output", 3 GND1 (power) "Logic-side Ground", 4 VCC1 (power) "Logic-side Power Supply", 5 R (hiz) "Receiver Output", 6 ~{RE} (in) "Receiver Enable Input. This pin has complementary logic.", 7 DE (in) "Driver Enable Input", 8 D (in) "Driver Input", 9 GND2 (power) "Bus-side Ground. All pins are internally connected.", 10 ISODE (out) "Bus-side Driver Enable Output Status", 11 GND2 (power) "Bus-side Ground. All pins are internally connected.", 12 A (io) "Non-inverting Driver Output / Receiver Input", 13 B (io) "Inverting Driver Output / Receiver Input", 14 GND2 (power) "Bus-side Ground. All pins are internally connected.", 15 GND2 (power) "Bus-side Ground. All pins are internally connected.", 16 VCC2 (power) "Bus-side Power Supply"

## ISO1176TDWR
designator U?
Isolated ProfiBus Transceiver with Integrated Transformer Driver, 40 Mbps, 5 V, Half Duplex, -40 to 85 degC, 16-pin SOIC (DW), Green (RoHS & no Sb/Br); Manufacturer: Texas Instruments; PartNumber: ISO1176TDWR; Eco-Plan: TBD; SubFamily: RS-485; # of TX/RX: 1 TX / 1 RX; Isolated: Yes; Number of Nodes: 256; Common Mode Range: -7 to 12; ESD(kV): 10; Fault Protection(V): -9 to 14; Fail Safe: Idle, Open, Short; Supply Voltage(s)(V): 5; Rating: Catalog; DatasheetVersion: SLLSE28E; PackageVersion: revG, Jan-2011; PackageReference: DW16; PackageDescription: 16-Pin Small Outline Integrated Circuit, 10.3 x 7.5 mm, Pitch 1.27 mm Pitch; Supplier 1: Digi-Key; Supplier Part Number 1: ISO1176TDWR-ND; Supplier 2: Newark; Supplier Part Number 2: 40T4822; Supplier 3: Mouser; Supplier Part Number 3: 595-ISO1176TDWR; Duplex: Half; Footprint: 16 SOIC; Mounting Technology: Surface Mount; Code_JEDEC: MS-013-AA; ComponentLink1Description: Datasheet; ComponentLink1URL: http://www.ti.com/general/docs/lit/getliterature.tsp?genericPartNumber=ISO1176T&fileType=pdf; ComponentLink2Description: Package Specification; ComponentLink2URL: http://www.ti.com/litv/pdf/msoi003g
footprint DW16_N (SOIC, 16-Leads, Body 10.3x7.5mm, Pitch 1.27mm, IPC Medium Density)
footprint DW16_L (SOIC, 16-Leads, Body 10.3x7.5mm, Pitch 1.27mm, IPC High Density)
footprint DW16_M (SOIC, 16-Leads, Body 10.3x7.5mm, Pitch 1.27mm, IPC Low Density)
pins: 1 D1 (oc) "Transformer Driver Terminal 1, Open Drain Output", 2 D2 (oc) "Transformer Driver Terminal 2, Open Drain Output", 3 GND1 (power) "Logic-side Ground", 4 VCC1 (power) "Logic-side Power Supply", 5 R (hiz) "Receiver Output", 6 ~{RE} (in) "Receiver Enable Input. This pin has complementary logic.", 7 DE (in) "Driver Enable Input", 8 D (in) "Driver Input", 9 GND2 (power) "Bus-side Ground. All pins are internally connected.", 10 ISODE (out) "Bus-side Driver Enable Output Status", 11 GND2 (power) "Bus-side Ground. All pins are internally connected.", 12 A (io) "Non-inverting Driver Output / Receiver Input", 13 B (io) "Inverting Driver Output / Receiver Input", 14 GND2 (power) "Bus-side Ground. All pins are internally connected.", 15 GND2 (power) "Bus-side Ground. All pins are internally connected.", 16 VCC2 (power) "Bus-side Power Supply"

## ISO3080DW
designator U?
Isolated RS-485 Transceiver, 0.2 Mbps, 5 V, Full Duplex, -40 to 85 degC, 16-pin SOIC (DW), Green (RoHS & no Sb/Br); Manufacturer: Texas Instruments; PartNumber: ISO3080DW; # of TX/RX: 1 TX / 1 RX; Drivers Per Package: 1; Isolated: Yes; Number of Nodes: 256; Signaling Rate(Mbps): 0.2; Common Mode Range: -7 to 12; ESD(kV): 16; Fault Protection(V): -9 to 14; Fail Safe: Idle, Open, Short; ICC(Max)(mA): 15; Supply Voltage(s)(V): 5; Rating: Catalog; DatasheetVersion: SLOS581E; PackageVersion: revG, Jan-2011; PackageReference: DW16; PackageDescription: 16-Pin Small Outline Integrated Circuit, 10.3 x 7.5 mm, Pitch 1.27 mm Pitch; Supplier 1: Digi-Key; Supplier Part Number 1: 296-23606-5-ND; Supplier 2: Farnell; Supplier Part Number 2: 1755039; Supplier 3: Newark; Supplier Part Number 3: 13N4113; Supplier 4: Mouser; Supplier Part Number 4: 595-ISO3080DW; Eco-Plan: Green (RoHS & no Sb/Br); SubFamily: RS-485; Receivers Per Package: 1; Duplex: Full; Mounting Technology: Surface Mount; Code_JEDEC: MS-013-AA; ComponentLink1Description: Datasheet; ComponentLink1URL: http://www.ti.com/general/docs/lit/getliterature.tsp?genericPartNumber=ISO3080&fileType=pdf; ComponentLink2Description: Package Specification; ComponentLink2URL: http://www.ti.com/litv/pdf/msoi003g
footprint DW16_N (SOIC, 16-Leads, Body 10.3x7.5mm, Pitch 1.27mm, IPC Medium Density)
footprint DW16_L (SOIC, 16-Leads, Body 10.3x7.5mm, Pitch 1.27mm, IPC High Density)
footprint DW16_M (SOIC, 16-Leads, Body 10.3x7.5mm, Pitch 1.27mm, IPC Low Density)
pins: 1 VCC1 (power), 2 GND1 (power), 3 R (hiz), 4 ~{RE} (in), 5 DE (in), 6 D (in), 7 GND1 (power), 8 GND1 (power), 9 GND2 (power), 10 GND2 (power), 11 Y (hiz), 12 Z (hiz), 13 B (in), 14 A (in), 15 GND2 (power), 16 VCC2 (power)

## ISO3080DWG4
designator U?
Isolated RS-485 Transceiver, 0.2 Mbps, 5 V, Full Duplex, -40 to 85 degC, 16-pin SOIC (DW), Green (RoHS & no Sb/Br); Manufacturer: Texas Instruments; PartNumber: ISO3080DWG4; # of TX/RX: 1 TX / 1 RX; Drivers Per Package: 1; Isolated: Yes; Number of Nodes: 256; Signaling Rate(Mbps): 0.2; Common Mode Range: -7 to 12; ESD(kV): 16; Fault Protection(V): -9 to 14; Fail Safe: Idle, Open, Short; ICC(Max)(mA): 15; Supply Voltage(s)(V): 5; Rating: Catalog; DatasheetVersion: SLOS581E; PackageVersion: revG, Jan-2011; PackageReference: DW16; PackageDescription: 16-Pin Small Outline Integrated Circuit, 10.3 x 7.5 mm, Pitch 1.27 mm Pitch; Supplier 1: Digi-Key; Supplier Part Number 1: ISO3080DWG4-ND; Supplier 2: Mouser; Supplier Part Number 2: 595-ISO3080DWG4; Eco-Plan: Green (RoHS & no Sb/Br); SubFamily: RS-485; Receivers Per Package: 1; Duplex: Full; Mounting Technology: Surface Mount; Code_JEDEC: MS-013-AA; ComponentLink1Description: Datasheet; ComponentLink1URL: http://www.ti.com/general/docs/lit/getliterature.tsp?genericPartNumber=ISO3080&fileType=pdf; ComponentLink2Description: Package Specification; ComponentLink2URL: http://www.ti.com/litv/pdf/msoi003g
footprint DW16_N (SOIC, 16-Leads, Body 10.3x7.5mm, Pitch 1.27mm, IPC Medium Density)
footprint DW16_L (SOIC, 16-Leads, Body 10.3x7.5mm, Pitch 1.27mm, IPC High Density)
footprint DW16_M (SOIC, 16-Leads, Body 10.3x7.5mm, Pitch 1.27mm, IPC Low Density)
pins: 1 VCC1 (power), 2 GND1 (power), 3 R (hiz), 4 ~{RE} (in), 5 DE (in), 6 D (in), 7 GND1 (power), 8 GND1 (power), 9 GND2 (power), 10 GND2 (power), 11 Y (hiz), 12 Z (hiz), 13 B (in), 14 A (in), 15 GND2 (power), 16 VCC2 (power)

## ISO3080DWR
designator U?
Isolated RS-485 Transceiver, 0.2 Mbps, 5 V, Full Duplex, -40 to 85 degC, 16-pin SOIC (DW), Green (RoHS & no Sb/Br); Manufacturer: Texas Instruments; PartNumber: ISO3080DWR; # of TX/RX: 1 TX / 1 RX; Drivers Per Package: 1; Isolated: Yes; Number of Nodes: 256; Signaling Rate(Mbps): 0.2; Common Mode Range: -7 to 12; ESD(kV): 16; Fault Protection(V): -9 to 14; Fail Safe: Idle, Open, Short; ICC(Max)(mA): 15; Supply Voltage(s)(V): 5; Rating: Catalog; DatasheetVersion: SLOS581E; PackageVersion: revG, Jan-2011; PackageReference: DW16; PackageDescription: 16-Pin Small Outline Integrated Circuit, 10.3 x 7.5 mm, Pitch 1.27 mm Pitch; Supplier 1: Digi-Key; Supplier Part Number 1: ISO3080DWR-ND; Supplier 2: Newark; Supplier Part Number 2: 03P4525; Supplier 3: Mouser; Supplier Part Number 3: 595-ISO3080DWR; Eco-Plan: Green (RoHS & no Sb/Br); SubFamily: RS-485; Receivers Per Package: 1; Duplex: Full; Mounting Technology: Surface Mount; Code_JEDEC: MS-013-AA; ComponentLink1Description: Datasheet; ComponentLink1URL: http://www.ti.com/general/docs/lit/getliterature.tsp?genericPartNumber=ISO3080&fileType=pdf; ComponentLink2Description: Package Specification; ComponentLink2URL: http://www.ti.com/litv/pdf/msoi003g
footprint DW16_N (SOIC, 16-Leads, Body 10.3x7.5mm, Pitch 1.27mm, IPC Medium Density)
footprint DW16_L (SOIC, 16-Leads, Body 10.3x7.5mm, Pitch 1.27mm, IPC High Density)
footprint DW16_M (SOIC, 16-Leads, Body 10.3x7.5mm, Pitch 1.27mm, IPC Low Density)
pins: 1 VCC1 (power), 2 GND1 (power), 3 R (hiz), 4 ~{RE} (in), 5 DE (in), 6 D (in), 7 GND1 (power), 8 GND1 (power), 9 GND2 (power), 10 GND2 (power), 11 Y (hiz), 12 Z (hiz), 13 B (in), 14 A (in), 15 GND2 (power), 16 VCC2 (power)

## ISO3080DWRG4
designator U?
Isolated RS-485 Transceiver, 0.2 Mbps, 5 V, Full Duplex, -40 to 85 degC, 16-pin SOIC (DW), Green (RoHS & no Sb/Br); Manufacturer: Texas Instruments; PartNumber: ISO3080DWRG4; # of TX/RX: 1 TX / 1 RX; Drivers Per Package: 1; Isolated: Yes; Number of Nodes: 256; Signaling Rate(Mbps): 0.2; Common Mode Range: -7 to 12; ESD(kV): 16; Fault Protection(V): -9 to 14; Fail Safe: Idle, Open, Short; ICC(Max)(mA): 15; Supply Voltage(s)(V): 5; Rating: Catalog; DatasheetVersion: SLOS581E; PackageVersion: revG, Jan-2011; PackageReference: DW16; PackageDescription: 16-Pin Small Outline Integrated Circuit, 10.3 x 7.5 mm, Pitch 1.27 mm Pitch; Supplier 1: Digi-Key; Supplier Part Number 1: ISO3080DWRG4-ND; Supplier 2: Newark; Supplier Part Number 2: 03P4526; Supplier 3: Mouser; Supplier Part Number 3: 595-ISO3080DWRG4; Eco-Plan: Green (RoHS & no Sb/Br); SubFamily: RS-485; Receivers Per Package: 1; Duplex: Full; Mounting Technology: Surface Mount; Code_JEDEC: MS-013-AA; ComponentLink1Description: Datasheet; ComponentLink1URL: http://www.ti.com/general/docs/lit/getliterature.tsp?genericPartNumber=ISO3080&fileType=pdf; ComponentLink2Description: Package Specification; ComponentLink2URL: http://www.ti.com/litv/pdf/msoi003g
footprint DW16_N (SOIC, 16-Leads, Body 10.3x7.5mm, Pitch 1.27mm, IPC Medium Density)
footprint DW16_L (SOIC, 16-Leads, Body 10.3x7.5mm, Pitch 1.27mm, IPC High Density)
footprint DW16_M (SOIC, 16-Leads, Body 10.3x7.5mm, Pitch 1.27mm, IPC Low Density)
pins: 1 VCC1 (power), 2 GND1 (power), 3 R (hiz), 4 ~{RE} (in), 5 DE (in), 6 D (in), 7 GND1 (power), 8 GND1 (power), 9 GND2 (power), 10 GND2 (power), 11 Y (hiz), 12 Z (hiz), 13 B (in), 14 A (in), 15 GND2 (power), 16 VCC2 (power)

## ISO3082DW
designator U?
Isolated RS-485 Transceiver, 0.2 Mbps, 5 V, Half Duplex, -40 to 85 degC, 16-pin SOIC (DW), Green (RoHS & no Sb/Br); Manufacturer: Texas Instruments; PartNumber: ISO3082DW; # of TX/RX: 1 TX / 1 RX; Drivers Per Package: 1; Isolated: Yes; Number of Nodes: 256; Signaling Rate(Mbps): 0.2; Common Mode Range: -7 to 12; ESD(kV): 16; Fault Protection(V): -9 to 14; Fail Safe: Idle, Open, Short; ICC(Max)(mA): 15; Supply Voltage(s)(V): 5; Rating: Catalog; DatasheetVersion: SLOS581E; PackageVersion: revG, Jan-2011; PackageReference: DW16; PackageDescription: 16-Pin Small Outline Integrated Circuit, 10.3 x 7.5 mm, Pitch 1.27 mm Pitch; Supplier 1: Digi-Key; Supplier Part Number 1: 296-23607-5-ND; Supplier 2: Farnell; Supplier Part Number 2: 1755040; Supplier 3: Newark; Supplier Part Number 3: 13N4114; Supplier 4: Mouser; Supplier Part Number 4: 595-ISO3082DW; Eco-Plan: Green (RoHS & no Sb/Br); SubFamily: RS-485; Receivers Per Package: 1; Duplex: Half; Mounting Technology: Surface Mount; Code_JEDEC: MS-013-AA; ComponentLink1Description: Datasheet; ComponentLink1URL: http://www.ti.com/general/docs/lit/getliterature.tsp?genericPartNumber=ISO3082&fileType=pdf; ComponentLink2Description: Package Specification; ComponentLink2URL: http://www.ti.com/litv/pdf/msoi003g
footprint DW16_N (SOIC, 16-Leads, Body 10.3x7.5mm, Pitch 1.27mm, IPC Medium Density)
footprint DW16_L (SOIC, 16-Leads, Body 10.3x7.5mm, Pitch 1.27mm, IPC High Density)
footprint DW16_M (SOIC, 16-Leads, Body 10.3x7.5mm, Pitch 1.27mm, IPC Low Density)
pins: 1 VCC1 (power), 2 GND1 (power), 3 R (hiz), 4 ~{RE} (in), 5 DE (in), 6 D (in), 7 GND1 (power), 8 GND1 (power), 9 GND2 (power), 10 GND2 (power), 11 NC, 12 A (io), 13 B (io), 14 NC, 15 GND2 (power), 16 VCC2 (power)

## ISO3082DWG4
designator U?
Isolated RS-485 Transceiver, 0.2 Mbps, 5 V, Half Duplex, -40 to 85 degC, 16-pin SOIC (DW), Green (RoHS & no Sb/Br); Manufacturer: Texas Instruments; PartNumber: ISO3082DWG4; # of TX/RX: 1 TX / 1 RX; Drivers Per Package: 1; Isolated: Yes; Number of Nodes: 256; Signaling Rate(Mbps): 0.2; Common Mode Range: -7 to 12; ESD(kV): 16; Fault Protection(V): -9 to 14; Fail Safe: Idle, Open, Short; ICC(Max)(mA): 15; Supply Voltage(s)(V): 5; Rating: Catalog; DatasheetVersion: SLOS581E; PackageVersion: revG, Jan-2011; PackageReference: DW16; PackageDescription: 16-Pin Small Outline Integrated Circuit, 10.3 x 7.5 mm, Pitch 1.27 mm Pitch; Supplier 1: Digi-Key; Supplier Part Number 1: ISO3082DWG4-ND; Supplier 2: Newark; Supplier Part Number 2: 03P4527; Supplier 3: Mouser; Supplier Part Number 3: 595-ISO3082DWG4; Eco-Plan: Green (RoHS & no Sb/Br); SubFamily: RS-485; Receivers Per Package: 1; Duplex: Half; Mounting Technology: Surface Mount; Code_JEDEC: MS-013-AA; ComponentLink1Description: Datasheet; ComponentLink1URL: http://www.ti.com/general/docs/lit/getliterature.tsp?genericPartNumber=ISO3082&fileType=pdf; ComponentLink2Description: Package Specification; ComponentLink2URL: http://www.ti.com/litv/pdf/msoi003g
footprint DW16_N (SOIC, 16-Leads, Body 10.3x7.5mm, Pitch 1.27mm, IPC Medium Density)
footprint DW16_L (SOIC, 16-Leads, Body 10.3x7.5mm, Pitch 1.27mm, IPC High Density)
footprint DW16_M (SOIC, 16-Leads, Body 10.3x7.5mm, Pitch 1.27mm, IPC Low Density)
pins: 1 VCC1 (power), 2 GND1 (power), 3 R (hiz), 4 ~{RE} (in), 5 DE (in), 6 D (in), 7 GND1 (power), 8 GND1 (power), 9 GND2 (power), 10 GND2 (power), 11 NC, 12 A (io), 13 B (io), 14 NC, 15 GND2 (power), 16 VCC2 (power)

## ISO3082DWR
designator U?
Isolated RS-485 Transceiver, 0.2 Mbps, 5 V, Half Duplex, -40 to 85 degC, 16-pin SOIC (DW), Green (RoHS & no Sb/Br); Manufacturer: Texas Instruments; PartNumber: ISO3082DWR; # of TX/RX: 1 TX / 1 RX; Drivers Per Package: 1; Isolated: Yes; Number of Nodes: 256; Signaling Rate(Mbps): 0.2; Common Mode Range: -7 to 12; ESD(kV): 16; Fault Protection(V): -9 to 14; Fail Safe: Idle, Open, Short; ICC(Max)(mA): 15; Supply Voltage(s)(V): 5; Rating: Catalog; DatasheetVersion: SLOS581E; PackageVersion: revG, Jan-2011; PackageReference: DW16; PackageDescription: 16-Pin Small Outline Integrated Circuit, 10.3 x 7.5 mm, Pitch 1.27 mm Pitch; Supplier 1: Digi-Key; Supplier Part Number 1: ISO3082DWR-ND; Supplier 2: Newark; Supplier Part Number 2: 03P4528; Supplier 3: Mouser; Supplier Part Number 3: 595-ISO3082DWR; Eco-Plan: Green (RoHS & no Sb/Br); SubFamily: RS-485; Receivers Per Package: 1; Duplex: Half; Mounting Technology: Surface Mount; Code_JEDEC: MS-013-AA; ComponentLink1Description: Datasheet; ComponentLink1URL: http://www.ti.com/general/docs/lit/getliterature.tsp?genericPartNumber=ISO3082&fileType=pdf; ComponentLink2Description: Package Specification; ComponentLink2URL: http://www.ti.com/litv/pdf/msoi003g
footprint DW16_N (SOIC, 16-Leads, Body 10.3x7.5mm, Pitch 1.27mm, IPC Medium Density)
footprint DW16_L (SOIC, 16-Leads, Body 10.3x7.5mm, Pitch 1.27mm, IPC High Density)
footprint DW16_M (SOIC, 16-Leads, Body 10.3x7.5mm, Pitch 1.27mm, IPC Low Density)
pins: 1 VCC1 (power), 2 GND1 (power), 3 R (hiz), 4 ~{RE} (in), 5 DE (in), 6 D (in), 7 GND1 (power), 8 GND1 (power), 9 GND2 (power), 10 GND2 (power), 11 NC, 12 A (io), 13 B (io), 14 NC, 15 GND2 (power), 16 VCC2 (power)

## ISO3082DWRG4
designator U?
Isolated RS-485 Transceiver, 0.2 Mbps, 5 V, Half Duplex, -40 to 85 degC, 16-pin SOIC (DW), Green (RoHS & no Sb/Br); Manufacturer: Texas Instruments; PartNumber: ISO3082DWRG4; # of TX/RX: 1 TX / 1 RX; Drivers Per Package: 1; Isolated: Yes; Number of Nodes: 256; Signaling Rate(Mbps): 0.2; Common Mode Range: -7 to 12; ESD(kV): 16; Fault Protection(V): -9 to 14; Fail Safe: Idle, Open, Short; ICC(Max)(mA): 15; Supply Voltage(s)(V): 5; Rating: Catalog; DatasheetVersion: SLOS581E; PackageVersion: revG, Jan-2011; PackageReference: DW16; PackageDescription: 16-Pin Small Outline Integrated Circuit, 10.3 x 7.5 mm, Pitch 1.27 mm Pitch; Supplier 1: Digi-Key; Supplier Part Number 1: ISO3082DWRG4-ND; Supplier 2: Newark; Supplier Part Number 2: 03P4529; Supplier 3: Mouser; Supplier Part Number 3: 595-ISO3082DWRG4; Eco-Plan: Green (RoHS & no Sb/Br); SubFamily: RS-485; Receivers Per Package: 1; Duplex: Half; Mounting Technology: Surface Mount; Code_JEDEC: MS-013-AA; ComponentLink1Description: Datasheet; ComponentLink1URL: http://www.ti.com/general/docs/lit/getliterature.tsp?genericPartNumber=ISO3082&fileType=pdf; ComponentLink2Description: Package Specification; ComponentLink2URL: http://www.ti.com/litv/pdf/msoi003g
footprint DW16_N (SOIC, 16-Leads, Body 10.3x7.5mm, Pitch 1.27mm, IPC Medium Density)
footprint DW16_L (SOIC, 16-Leads, Body 10.3x7.5mm, Pitch 1.27mm, IPC High Density)
footprint DW16_M (SOIC, 16-Leads, Body 10.3x7.5mm, Pitch 1.27mm, IPC Low Density)
pins: 1 VCC1 (power), 2 GND1 (power), 3 R (hiz), 4 ~{RE} (in), 5 DE (in), 6 D (in), 7 GND1 (power), 8 GND1 (power), 9 GND2 (power), 10 GND2 (power), 11 NC, 12 A (io), 13 B (io), 14 NC, 15 GND2 (power), 16 VCC2 (power)

## ISO3086DW
designator U?
Isolated RS-485 Transceiver, 20 Mbps, 5 V, Full Duplex, -40 to 85 degC, 16-pin SOIC (DW), Green (RoHS & no Sb/Br); Manufacturer: Texas Instruments; PartNumber: ISO3086DW; # of TX/RX: 1 TX / 1 RX; Drivers Per Package: 1; Isolated: Yes; Number of Nodes: 256; Signaling Rate(Mbps): 20; Common Mode Range: -7 to 12; ESD(kV): 16; Fault Protection(V): -9 to 14; Fail Safe: Idle, Open, Short; ICC(Max)(mA): 15; Supply Voltage(s)(V): 5; Rating: Catalog; DatasheetVersion: SLOS581E; PackageVersion: revG, Jan-2011; PackageReference: DW16; PackageDescription: 16-Pin Small Outline Integrated Circuit, 10.3 x 7.5 mm, Pitch 1.27 mm Pitch; Supplier 1: Digi-Key; Supplier Part Number 1: 296-23608-5-ND; Supplier 2: Farnell; Supplier Part Number 2: 1755041; Supplier 3: Newark; Supplier Part Number 3: 13N4115; Supplier 4: Mouser; Supplier Part Number 4: 595-ISO3086DW; Eco-Plan: Green (RoHS & no Sb/Br); SubFamily: RS-485; Receivers Per Package: 1; Duplex: Full; Mounting Technology: Surface Mount; Code_JEDEC: MS-013-AA; ComponentLink1Description: Datasheet; ComponentLink1URL: http://www.ti.com/general/docs/lit/getliterature.tsp?genericPartNumber=ISO3086&fileType=pdf; ComponentLink2Description: Package Specification; ComponentLink2URL: http://www.ti.com/litv/pdf/msoi003g
footprint DW16_N (SOIC, 16-Leads, Body 10.3x7.5mm, Pitch 1.27mm, IPC Medium Density)
footprint DW16_L (SOIC, 16-Leads, Body 10.3x7.5mm, Pitch 1.27mm, IPC High Density)
footprint DW16_M (SOIC, 16-Leads, Body 10.3x7.5mm, Pitch 1.27mm, IPC Low Density)
pins: 1 VCC1 (power), 2 GND1 (power), 3 R (hiz), 4 ~{RE} (in), 5 DE (in), 6 D (in), 7 GND1 (power), 8 GND1 (power), 9 GND2 (power), 10 GND2 (power), 11 Y (hiz), 12 Z (hiz), 13 B (in), 14 A (in), 15 GND2 (power), 16 VCC2 (power)